# Altium footprint library PCIE Express.PcbLib: 1 footprints
Each footprint in its own frame and in the unit in brackets; x right, y up, seen from the top. Pads: shape width x height; smd on the part's side, far side on the other; paste and mask are expansions set on the pad; w line width, h text height; cw(c..) or ccw(c..) is an arc to the next point about the centre after c.
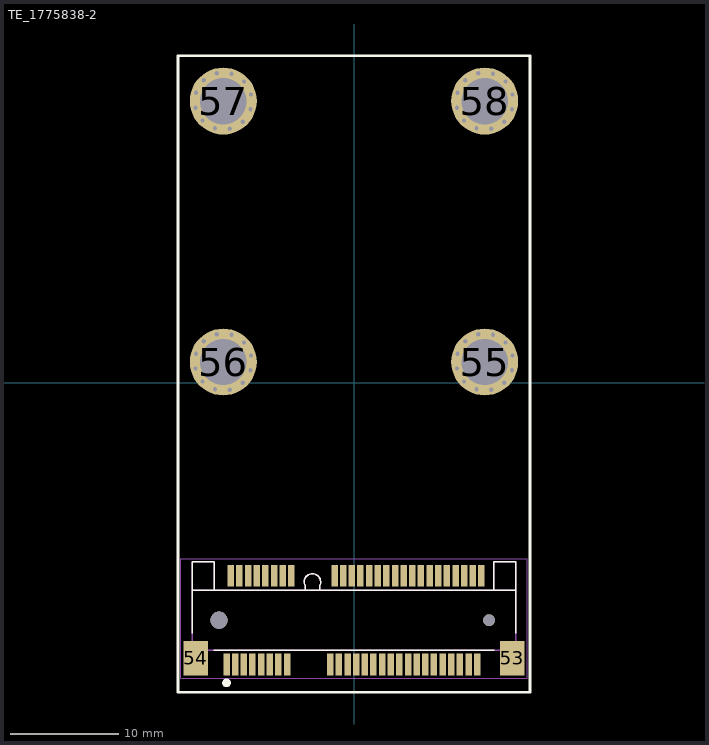
[diagram p0: the footprint, top view; thin cyan lines are the x and y axes]

## TE_1775838-2 [mm]
pads (108):
  rect 0.6x2 smd: 1(-11.8,-26.075) 2(-11.4,-17.875) 3(-11,-26.075) 4(-10.6,-17.875) 5(-10.2,-26.075) 6(-9.8,-17.875) 7(-9.4,-26.075) 8(-9,-17.875) 9(-8.6,-26.075) 10(-8.2,-17.875) 11(-7.8,-26.075) 12(-7.4,-17.875) 13(-7,-26.075) 14(-6.6,-17.875) 15(-6.2,-26.075) 16(-5.8,-17.875) 17(-2.2,-26.075) 18(-1.8,-17.875) 19(-1.4,-26.075) 20(-1,-17.875) 21(-0.6,-26.075) 22(-0.2,-17.875) 23(0.2,-26.075) 24(0.6,-17.875) 25(1,-26.075) 26(1.4,-17.875) 27(1.8,-26.075) 28(2.2,-17.875) 29(2.6,-26.075) 30(3,-17.875) 31(3.4,-26.075) 32(3.8,-17.875) 33(4.2,-26.075) 34(4.6,-17.875) 35(5,-26.075) 36(5.4,-17.875) 37(5.8,-26.075) 38(6.2,-17.875) 39(6.6,-26.075) 40(7,-17.875) 41(7.4,-26.075) 42(7.8,-17.875) 43(8.2,-26.075) 44(8.6,-17.875) 45(9,-26.075) 46(9.4,-17.875) 47(9.8,-26.075) 48(10.2,-17.875) 49(10.6,-26.075) 50(11,-17.875) 51(11.4,-26.075) 52(11.8,-17.875)
  round 0.6 hole 0.4 mask+0: 53(-14.665,1.322) 53(-14.623,2.685) 53(-14.02,0.12) 53(-13.905,3.845) 53(-12.86,-0.598) 53(-12.703,4.49) 53(-11.497,-0.64) 53(-11.34,4.448) 53(-10.295,0.005) 53(-10.18,3.73) 53(-9.577,1.165) 53(-9.535,2.528) 54(9.535,1.322) 54(9.577,2.685) 54(10.18,0.12) 54(10.295,3.845) 54(11.34,-0.598) 54(11.497,4.49) 54(12.703,-0.64) 54(12.86,4.448) 54(13.905,0.005) 54(14.02,3.73) 54(14.623,1.165) 54(14.665,2.528) 57(-14.665,25.472) 57(-14.623,26.835) 57(-14.02,24.27) 57(-13.905,27.995) 57(-12.86,23.552) 57(-12.703,28.64) 57(-11.497,23.51) 57(-11.34,28.598) 57(-10.295,24.155) 57(-10.18,27.88) 57(-9.577,25.315) 57(-9.535,26.678) 58(9.535,25.472) 58(9.577,26.835) 58(10.18,24.27) 58(10.295,27.995) 58(11.34,23.552) 58(11.497,28.64) 58(12.703,23.51) 58(12.86,28.598) 58(13.905,24.155) 58(14.02,27.88) 58(14.623,25.315) 58(14.665,26.678)
  rect 2.3x3.2 smd: 53(14.65,-25.475) 54(-14.65,-25.475)
  round 6.2 hole 4.3: 55(12.1,1.925) 56(-12.1,1.925) 57(-12.1,26.075) 58(12.1,26.075)
  round 1.6 hole 1.6 unplated: ""(-12.5,-21.975)
  round 1.1 hole 1.1 unplated: ""(12.5,-21.975)
Top Overlay:
  circle w0.4: c-11.8,-27.775 r0.2
  lines w0.127: -14.95,-23.175 -14.95,-19.195 ; -13,-24.755 13,-24.755 ; -4.535,-18.775 -4.535,-19.195 ; -4.532,-18.78 cw(c-3.85,-18.433) -3.168,-18.78 ; -3.165,-18.775 -3.165,-19.195 ; 14.95,-23.175 14.95,-19.195 ; -14.95,-19.195 -12.95,-19.195 ; -14.95,-19.195 -14.95,-16.555 -12.95,-16.555 -12.95,-19.195 ; -12.95,-19.195 -4.535,-19.195 ; -4.535,-19.195 -3.165,-19.195 ; -3.165,-19.195 12.95,-19.195 ; 12.95,-19.195 14.95,-19.195 ; 12.95,-19.195 12.95,-16.555 14.95,-16.555 14.95,-19.195
  lines w0.254: -16.3,-28.635 -16.3,30.265 16.3,30.265 16.3,-28.635 -16.3,-28.635
Top Assembly:
  lines w0.127: -4.535,-18.775 -4.535,-19.195 ; -4.532,-18.78 cw(c-3.85,-18.433) -3.168,-18.78 ; -3.165,-18.775 -3.165,-19.195 ; -14.95,-19.195 -12.95,-19.195 ; -14.95,-19.195 -14.95,-24.755 14.95,-24.755 14.95,-19.195 ; -14.95,-19.195 -14.95,-16.555 -12.95,-16.555 -12.95,-19.195 ; -12.95,-19.195 -4.535,-19.195 ; -4.535,-19.195 -3.165,-19.195 ; -3.165,-19.195 12.95,-19.195 ; 12.95,-19.195 14.95,-19.195 ; 12.95,-19.195 12.95,-16.555 14.95,-16.555 14.95,-19.195
Top Courtyard:
  lines w0.05: -16.05,-27.325 16.05,-27.325 16.05,-16.305 -16.05,-16.305 -16.05,-27.325
3D body "Solderable Standoff Nuts.STEP": height 6.45, standoff -1.6, extent 9.32,23.295 14.88,28.855
3D body "Solderable Standoff Nuts.STEP": height 6.45, standoff -1.6, extent -14.88,23.295 -9.32,28.855
3D body "1775838-2.stp": height 5.77, standoff -0.48, extent -15.05,-26.675 14.85,-17.595